# Altium integrated library ST Sensor Fluid Detector.IntLib: 1 symbol
Pins are listed as number, name and electrical type; pins without a type are passive.

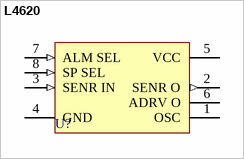
[diagram p0: symbol L4620]

## L4620
designator U?
Liquid Level Alarm; Published: 24-Aug-2001; LatestRevisionDate: 17-Jul-2002; LatestRevisionNote: Re-released for DXP Platform.; DatasheetDocument: Nov-1990; PackageReference: DIP8; Publisher: Altium Limited; Code_JEDEC: MO-001-AN
footprint DIP8 (DIP; 8 Leads; Row Spacing 7.62 mm; Pitch 2.54 mm)
pins: 1 OSC, 2 SENR O (out), 3 SENR IN (in), 4 GND (power), 5 VCC (power), 6 ADRV O (oc), 7 ALM SEL (in), 8 SP SEL (in)